# EAGLE library part APA102_LED (library epifib)
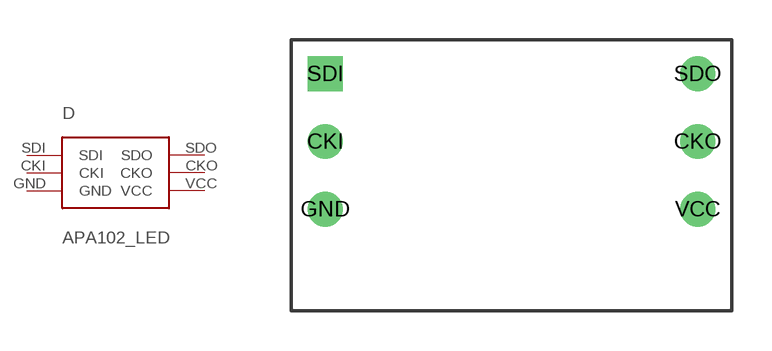
[diagram p2: symbol with the pads of APA102_LED; footprint APA102_LED]

Designator prefix D

## APA102_LED  [APA102_LED]
CKI  CKI
CKO  CKO
GND  GND
SDI  SDI
SDO  SDO
VCC  VCC

## Footprint APA102_LED (pad centres in mm)
drill 0.8: CKI 1.27,-3.81; CKO 15.24,-3.81; GND 1.27,-6.35; SDO 15.24,-1.27; VCC 15.24,-6.35
drill 0.8 square: SDI 1.27,-1.27